# EAGLE library part LED_7SEG_4DIGIT_COMK (library mylib_20130829)
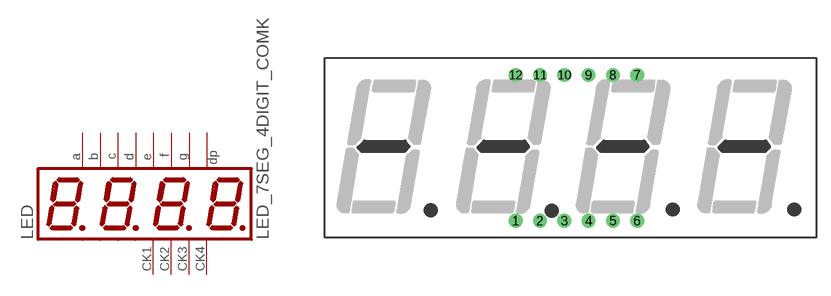
[diagram p85: symbol with the pads of LED_7SEG_4DIGIT; footprint LED_7SEG_4DIGIT]

Designator prefix LED

## LED_7SEG_4DIGIT_COMK  [LED_7SEG_4DIGIT]
1  E  pas
2  D  pas
3  DP  pas
4  C  pas
5  G  pas
6  CA4  pas
7  B  pas
8  CA  pas
9  CA  pas
10  F  pas
11  A  pas
12  CA  pas

## Footprint LED_7SEG_4DIGIT (pad centres in mm)
14.22mm (0.56INCH) THREE DIGIT NUMERIC DISPLAY Source: http://www.kingbright.com .. BA56-11EWA(Ver1189474895.pdf
drill 0.8 pad 1.422: 1 1.27,-7.62; 2 3.81,-7.62; 3 6.35,-7.62; 4 8.89,-7.62; 5 11.43,-7.62; 6 13.97,-7.62; 7 13.97,7.62; 8 11.43,7.62; 9 8.89,7.62; 10 6.35,7.62; 11 3.81,7.62; 12 1.27,7.62